# Altium schematic symbol library DF04SCT.SchLib: 1 symbol
Pins are listed as number, name and electrical type; pins without a type are passive.

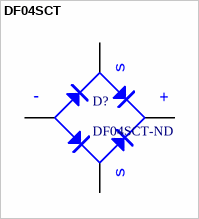
[diagram p0: symbol DF04SCT]

## DF04SCT
designator D?, comment DF04SCT-ND
IC RECT BRIDGE 400V 1.5A 4-SMD; Manufacturer: Farichild Semiconductor; Manufacturer #: DF04S; CREO: AP; Digikey PN: DF04SCT-ND; APROBO: -; Value: DF04SCT-ND
footprint DF04SCT (4-LEAD, SDIP, 6.5mm Wide)
pins: 1 V+, 2 V-, 3 AC, 4 AC
text: s; +